# EAGLE library part INA212_DCK_6 (library OpenPMSM)
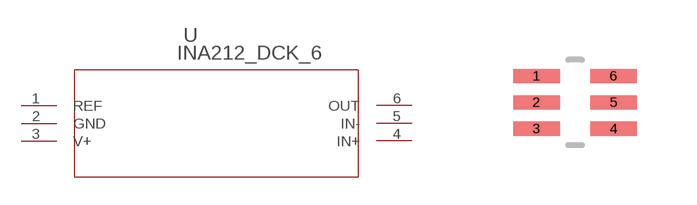
[diagram p4: symbol with the pads of DCK6; footprint DCK6]

Designator prefix U

## INA212_DCK_6 (DATASHEETURL: http://www.ti.com/lit/gpn/INA212; DESCRIPTION: Voltage Output, High/Low-Side Measurement, Bi-Directional Zero-Drift Series Current Shunt Monitor; FAMILY_NAME: CURRENT SHUNT MONITOR; GENERIC_PART_NUMBER: INA212; INDUSTRY_STD_PKG_TYPE: SC70; MANUFACTURER: Texas Instruments; MANUFACTURER_PART_NUMBER: ina212_dck_6; PACKAGE_DESIGNATOR: DCK; PIN_COUNT: 6; VENDOR: Texas Instruments)  [DCK6]
1  REF  pwr
2  GND  pwr
3  V+  pwr
4  IN+  in
5  IN-  in
6  OUT  out

## Footprint DCK6 (pad centres in mm)
smd 1.168 x 0.356: 1 -0.965,0.66; 2 -0.965,0; 3 -0.965,-0.66; 4 0.965,-0.66; 5 0.965,0; 6 0.965,0.66